# EAGLE library part SWITCH (library switch)
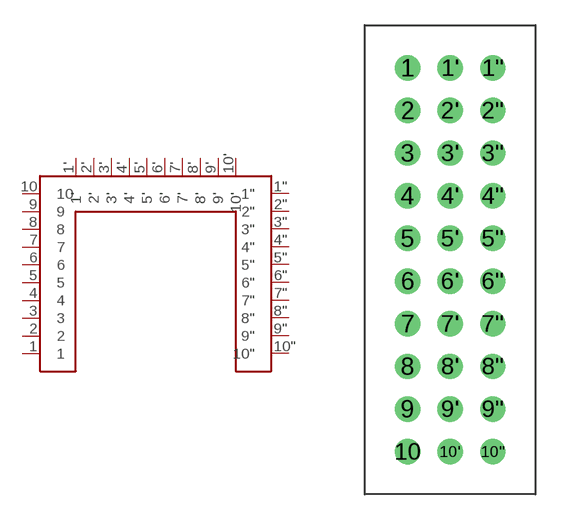
[diagram p0: symbol with the pads of SWITCH; footprint SWITCH]

Designator prefix -

## SWITCH  [SWITCH]
1  1
1"  1"
1'  1'
2  2
2"  2"
2'  2'
3  3
3"  3"
3'  3'
4  4
4"  4"
4'  4'
5  5
5"  5"
5'  5'
6  6
6"  6"
6'  6'
7  7
7"  7"
7'  7'
8  8
8"  8"
8'  8'
9  9
9"  9"
9'  9'
10  10
10"  10"
10'  10'

## Footprint SWITCH (pad centres in mm)
drill 1: 1 -20.32,7.62; 1" -15.24,7.62; 1' -17.78,7.62; 2 -20.32,5.08; 2" -15.24,5.08; 2' -17.78,5.08; 3 -20.32,2.54; 3" -15.24,2.54; 3' -17.78,2.54; 4 -20.32,0; 4" -15.24,0; 4' -17.78,0; 5 -20.32,-2.54; 5" -15.24,-2.54; 5' -17.78,-2.54; 6 -20.32,-5.08; 6" -15.24,-5.08; 6' -17.78,-5.08; 7 -20.32,-7.62; 7" -15.24,-7.62; 7' -17.78,-7.62; 8 -20.32,-10.16; 8" -15.24,-10.16; 8' -17.78,-10.16; 9 -20.32,-12.7; 9" -15.24,-12.7; 9' -17.78,-12.7; 10 -20.32,-15.24; 10" -15.24,-15.24; 10' -17.78,-15.24